# Altium footprint library TO252.PcbLib: 1 footprints
Each footprint in its own frame and in the unit in brackets; x right, y up, seen from the top. Pads: shape width x height; smd on the part's side, far side on the other; paste and mask are expansions set on the pad; w line width, h text height; cw(c..) or ccw(c..) is an arc to the next point about the centre after c.
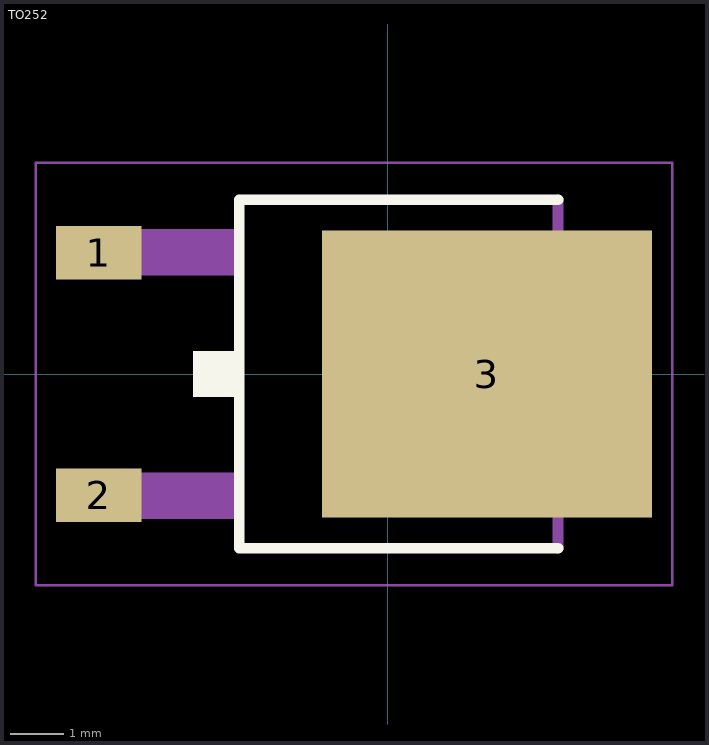
[diagram p0: the footprint, top view; thin cyan lines are the x and y axes]

## TO252 [mm]
pads (3):
  rect 1.6x1 smd: 1(-5.435,2.28) 2(-5.435,-2.28)
  rect 6.2x5.4 smd: 3(1.865,0)
Top Overlay:
  region: -2.896,-0.432 -3.658,-0.432 -3.658,0.432 -2.896,0.432
  lines w0.203: 3.2,-3.277 -2.794,-3.277 -2.794,3.277 3.2,3.277
Assembly Top:
  region: -2.896,1.854 -5.791,1.854 -5.791,2.718 -2.896,2.718
  region: -2.896,-2.718 -5.791,-2.718 -5.791,-1.854 -2.896,-1.854
  region: 4.47,2.108 4.47,-2.108 4.013,-2.565 3.302,-2.565 3.302,2.565 4.013,2.565
  lines w0.203: 3.2,-3.277 3.2,3.277 ; 3.302,-2.565 4.013,-2.565 4.47,-2.108 4.47,2.108 4.013,2.565 3.302,2.565 3.302,-2.565
Courtyard Top:
  lines w0.051: -6.618,-3.973 -6.618,3.973 5.348,3.973 5.348,-3.973 -6.618,-3.973
3D body "step_temp.STEP": height 2.4, standoff -0.2, extent -3.302,-5.016 3.302,5.016